# Altium integrated library ConectorDC.IntLib: 1 symbol
Pins are listed as number, name and electrical type; pins without a type are passive.

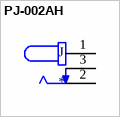
[diagram p0: symbol PJ-002AH]

## PJ-002AH
designator J
2.0 x 6.5 mm, 5.0 A, Horizontal, Through Hole, Dc Power Jack Connector; MP: PJ-002AH; MF: CUI Devices; Package: None; Value: *; Digi-Key_Purchase_URL: https://www.digikey.com/product-detail/en/cui-devices/PJ-002AH/CP-002AH-ND/408446?utm_source=snapeda&utm_medium=aggregator&utm_campaign=symbol; Digi-Key_Part_Number: CP-002AH-ND; SnapEDA_Link: https://www.snapeda.com/parts/PJ-002AH/CUI%20Devices/view-part/448876/?ref=snap; CUI_purchase_URL: https://www.cuidevices.com/product/interconnect/connectors/dc-power-connectors/jacks/pj-002ah?utm_source=snapeda.com&utm_medium=referral&utm_campaign=snapedaBOM
footprint ConectorDC (Footprint not found)
pins: 1, 2, 3